# EAGLE library part POWER-SEQUENCER-3-RAIL-LM3880 (library FlashPCB_ICs)
LM3880 - IC PWR SUPPLY SEQUENCER SOT23-6 Technical Specifications: Power Supply Controller, Power Supply Sequencer SOT-23-6 Three-Rail Simple Power Sequencer Input Voltage Range: 2.7V~5.5V Component Search: LM3880 <https://www.flashpcb.com/components> Datasheet: LM3880-Q1 Simple Power Sequencer datasheet (Rev. A) <https://www.ti.com/lit/ds/symlink/lm3880-q1.pdf?HQS=dis-dk-null-digikeymode-dsf-pf-null-wwe&ts=1682549383242&ref_url=https%253A%252F%252Fwww.ti.com%252Fgeneral%252Fdocs%252Fsuppproductinfo.tsp%253FdistId%253D10%2526gotoUrl%253Dhttps%253A%252F%252Fwww.ti.com%252Flit%252Fgpn%252FLM3880-Q1>
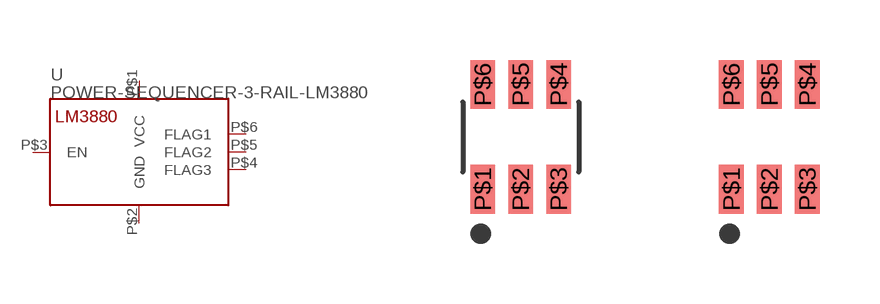
[diagram p72: symbol with the pads of SOT-23-6; footprints SOT-23-6, SOT-23-6_NOSILK]

Designator prefix U

## POWER-SEQUENCER-3-RAIL-LM3880  [SOT-23-6]
P$1  VCC
P$2  GND
P$3  EN
P$4  FLAG3
P$5  FLAG2
P$6  FLAG1

## POWER-SEQUENCER-3-RAIL-LM3880-NO-SILK  [SOT-23-6_NOSILK]
Pads as for SOT-23-6

## Footprint SOT-23-6 (pad centres in mm)
smd 0.62 x 1.22: P$1 -0.95,-1.31; P$2 0,-1.31; P$3 0.95,-1.31; P$4 0.95,1.31; P$5 0,1.31; P$6 -0.95,1.31

## Footprint SOT-23-6_NOSILK (pad centres in mm)
smd 0.62 x 1.22: P$1 -0.95,-1.31; P$2 0,-1.31; P$3 0.95,-1.31; P$4 0.95,1.31; P$5 0,1.31; P$6 -0.95,1.31